# Altium footprint library PcbLib1.PcbLib: 42 footprints (part 1 of 3)
Each footprint in its own frame and in the unit in brackets; x right, y up, seen from the top. Pads: shape width x height; smd on the part's side, far side on the other; paste and mask are expansions set on the pad; w line width, h text height; cw(c..) or ccw(c..) is an arc to the next point about the centre after c.
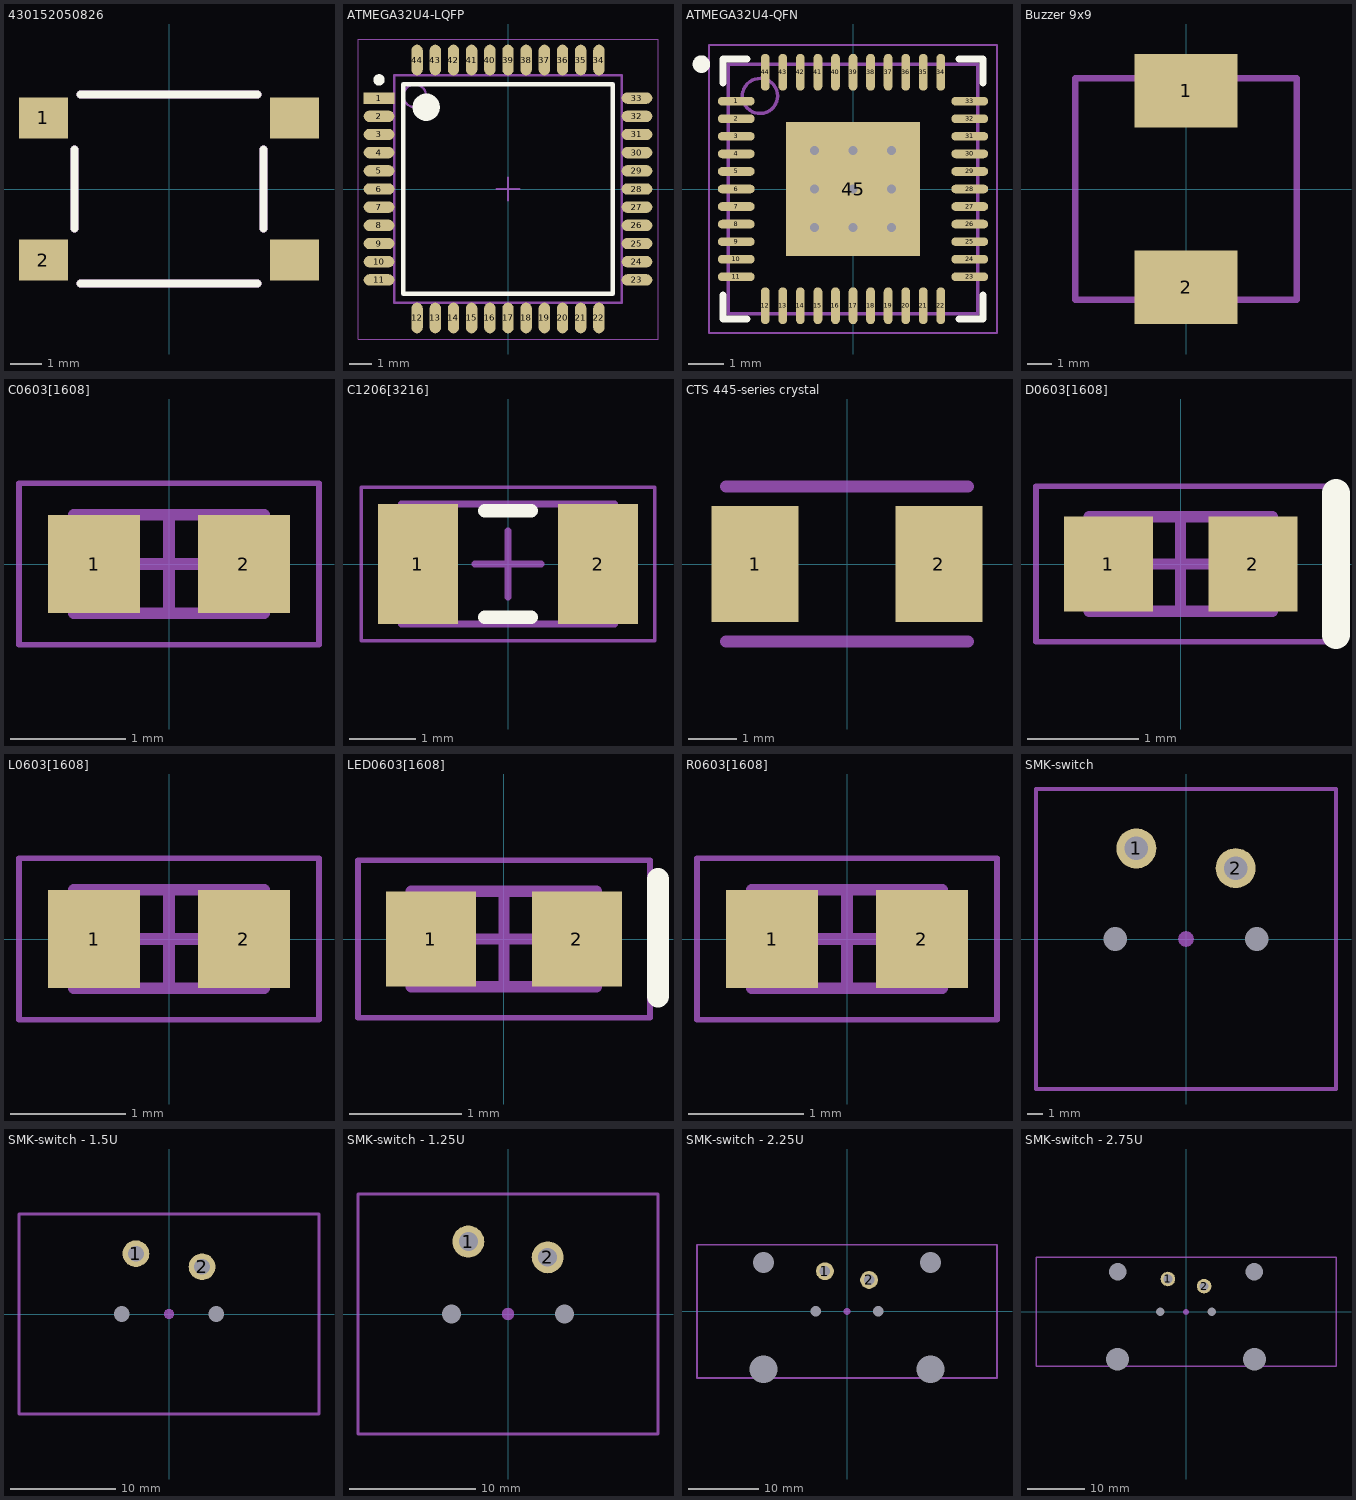
[diagram p0: the footprints below, top view; thin cyan lines are the x and y axes]

## 430152050826 [mm] "Wurth Electronics Inc."
pads (4):
  rect 1.55x1.3 smd: 1(-3.975,2.25) 2(-3.975,-2.25) ""(3.975,-2.25) ""(3.975,2.25)
Top Overlay:
  lines w0.254: -3,-1.25 -3,1.25 ; -2.8,-3 2.8,-3 ; -2.8,3 2.8,3 ; 3,-1.25 3,1.25
Mechanical 13:
  lines w0.254: -3,-1.25 -3,1.25 ; -2.8,-3 2.8,-3 ; -2.8,3 2.8,3 ; 3,-1.25 3,1.25
  text ".Designator" at -1.3,-0.125 h0.35
3D body "430152050826 (rev1).stp": height 5, standoff 0, extent -4.5,-3.1 4.5,3.1

## ATMEGA32U4-LQFP [mm] "QFP, 44-Leads, Body 9,95x9,95mm, Pitch 0,80mm, IPC Medium Density"
height 2.45
pads (44):
  rect 1.35x0.5 smd: 1(-5.675,4)
  oval 1.35x0.5 smd: 2(-5.675,3.2) 3(-5.675,2.4) 4(-5.675,1.6) 5(-5.675,0.8) 6(-5.675,0) 7(-5.675,-0.8) 8(-5.675,-1.6) 9(-5.675,-2.4) 10(-5.675,-3.2) 11(-5.675,-4) 23(5.675,-4) 24(5.675,-3.2) 25(5.675,-2.4) 26(5.675,-1.6) 27(5.675,-0.8) 28(5.675,0) 29(5.675,0.8) 30(5.675,1.6) 31(5.675,2.4) 32(5.675,3.2) 33(5.675,4)
  oval 0.5x1.35 smd: 12(-4,-5.675) 13(-3.2,-5.675) 14(-2.4,-5.675) 15(-1.6,-5.675) 16(-0.8,-5.675) 17(0,-5.675) 18(0.8,-5.675) 19(1.6,-5.675) 20(2.4,-5.675) 21(3.2,-5.675) 22(4,-5.675) 34(4,5.675) 35(3.2,5.675) 36(2.4,5.675) 37(1.6,5.675) 38(0.8,5.675) 39(0,5.675) 40(-0.8,5.675) 41(-1.6,5.675) 42(-2.4,5.675) 43(-3.2,5.675) 44(-4,5.675)
Top Overlay:
  circle w0.25: c-5.675,4.8 r0.125
  circle w0.6: c-3.6,3.6 r0.3
  lines w0.2: -4.6,-4.6 -4.6,4.6 4.6,4.6 4.6,-4.6 -4.6,-4.6
Mechanical 13:
  circle w0.1: c-4.1,4.1 r0.5
  lines w0.1: -5,-5 -5,5 5,5 5,-5 -5,-5
  text ".Designator" at -1.425,-0.15 h0.35
Mechanical 15:
  lines w0.05: -6.6,-6.6 -6.6,6.6 6.6,6.6 6.6,-6.6 -6.6,-6.6
  lines w0.1: -0.5,0 0.5,0 ; 0,-0.5 0,0.5
3D body "tqfp-44.STEP": height 1, standoff -0.11, extent -6,-6 6,6

## ATMEGA32U4-QFN [mm]
height 1
pads (45):
  oval 1.05x0.25 smd: 1(-3.325,2.5) 2(-3.325,2) 3(-3.325,1.5) 4(-3.325,1) 5(-3.325,0.5) 6(-3.325,0) 7(-3.325,-0.5) 8(-3.325,-1) 9(-3.325,-1.5) 10(-3.325,-2) 11(-3.325,-2.5) 23(3.325,-2.5) 24(3.325,-2) 25(3.325,-1.5) 26(3.325,-1) 27(3.325,-0.5) 28(3.325,0) 29(3.325,0.5) 30(3.325,1) 31(3.325,1.5) 32(3.325,2) 33(3.325,2.5)
  oval 0.25x1.05 smd: 12(-2.5,-3.325) 13(-2,-3.325) 14(-1.5,-3.325) 15(-1,-3.325) 16(-0.5,-3.325) 17(0,-3.325) 18(0.5,-3.325) 19(1,-3.325) 20(1.5,-3.325) 21(2,-3.325) 22(2.5,-3.325) 34(2.5,3.325) 35(2,3.325) 36(1.5,3.325) 37(1,3.325) 38(0.5,3.325) 39(0,3.325) 40(-0.5,3.325) 41(-1,3.325) 42(-1.5,3.325) 43(-2,3.325) 44(-2.5,3.325)
  rect 3.81x3.81 smd paste-1000: 45(0,0)
via -1.1,1.1 diameter 0.508 hole 0.254
via 0,1.1 diameter 0.508 hole 0.254
via 1.1,1.1 diameter 0.508 hole 0.254
via -1.1,0 diameter 0.508 hole 0.254
via 0,0 diameter 0.508 hole 0.254
via 1.1,0 diameter 0.508 hole 0.254
via -1.1,-1.1 diameter 0.508 hole 0.254
via 0,-1.1 diameter 0.508 hole 0.254
via 1.1,-1.1 diameter 0.508 hole 0.254
Top Overlay:
  circle w0.25: c-4.318,3.556 r0.125
  lines w0.2: -3.7,-3.025 -3.7,-3.7 -3.025,-3.7 ; -3.7,3.025 -3.7,3.7 -3.025,3.7 ; 3.025,-3.7 3.7,-3.7 3.7,-3.025 ; 3.025,3.7 3.7,3.7 3.7,3.025
Top Paste:
  region: -1.778,1.778 -1.778,0.254 -0.254,0.254 -0.254,1.778
  region: 1.778,1.778 0.254,1.778 0.254,0.254 1.778,0.254
  region: 1.778,-1.778 1.778,-0.254 0.254,-0.254 0.254,-1.778
  rectangle: -1.778,-1.778 -0.254,-0.254
Mechanical 13:
  circle w0.1: c-2.65,2.65 r0.5
  lines w0.1: -3.55,-3.55 -3.55,3.55 3.55,3.55 3.55,-3.55 -3.55,-3.55
  text ".Designator" at -2.345,-0.152 h0.5
Mechanical 15:
  lines w0.05: -4.1,-4.1 -4.1,4.1 4.1,4.1 4.1,-4.1 -4.1,-4.1
  lines w0.1: -0.5,0 0.5,0 ; 0,-0.5 0,0.5
3D body "ATMEGA32U4-combo.step": height 1, standoff 0, extent -3.6,-3.6 3.6,3.6

## Buzzer 9x9 [mm]
pads (2):
  rect 4.2x3 smd: 1(0,4) 2(0,-4)
Mechanical 13:
  lines w0.254: -4.5,-4.5 4.5,-4.5 4.5,4.5 -4.5,4.5 -4.5,-4.5
  text ".Designator" at -1.917,-0.015 h0.5
3D body "CUI_CPT-9019S-SMT.step": height 1.91, standoff 0, extent -4.551,-4.643 4.449,4.597

## C0603[1608] [mm] "Chip Resistor, 2-Leads, Body 1,57x0,80mm, IPC Medium Density"
height 0.5
pads (2):
  rect 0.8x0.85 smd: 1(-0.65,0) 2(0.65,0)
Mechanical 13:
  lines w0.1: -0.825,-0.425 0.825,-0.425 0.825,0.425 -0.825,0.425 -0.825,-0.425
  text ".Designator" at -1.05,-0.275 h0.35
Mechanical 15:
  lines w0.05: -1.3,-0.7 1.3,-0.7 1.3,0.7 -1.3,0.7 -1.3,-0.7
  lines w0.1: -0.425,0 0.425,0 ; 0,-0.425 0,0.425
3D body: height 0.5, standoff 0, extent -0.525,-0.425 0.525,0.425
3D body: height 0.5, standoff 0, extent 0.525,-0.425 0.825,0.425
3D body: height 0.5, standoff 0, extent -0.825,-0.425 -0.525,0.425

## C1206[3216] [mm]
height 1.2
pads (2):
  rect 1.2x1.8 smd: 1(-1.35,0) 2(1.35,0)
Top Overlay:
  lines w0.2: -0.35,-0.8 0.35,-0.8 ; -0.35,0.8 0.35,0.8
Mechanical 13:
  lines w0.1: -1.6,-0.9 1.6,-0.9 1.6,0.9 -1.6,0.9 -1.6,-0.9
  text ".Designator" at -1.245,-0.152 h0.5
Mechanical 15:
  lines w0.05: -2.2,-1.15 2.2,-1.15 2.2,1.15 -2.2,1.15 -2.2,-1.15
  lines w0.1: -0.5,0 0.5,0 ; 0,-0.5 0,0.5
3D body: height 1.2, standoff 0, extent 1.1,-0.9 1.6,0.9
3D body: height 1.2, standoff 0, extent -1.6,-0.9 -1.1,0.9
3D body: height 1.2, standoff 0, extent -1.1,-0.9 1.1,0.9

## CTS 445-series crystal [mm]
pads (2):
  rect 1.8x2.4 smd: 1(-1.9,0) 2(1.9,0)
Mechanical 13:
  lines w0.254: -2.5,-1.6 2.5,-1.6 ; -2.5,1.6 2.5,1.6
  text ".Designator" at -1.372,-0.152 h0.5
3D body "ABM3.STEP": height 1.3, standoff 0, extent -2.5,-1.6 2.5,1.6

## D0603[1608] [mm] "Chip Resistor, 2-Leads, Body 1,57x0,80mm, IPC Medium Density"
height 0.5
pads (2):
  rect 0.8x0.85 smd: 1(-0.65,0) 2(0.65,0)
Top Overlay:
  lines w0.254: 1.397,-0.635 1.397,0.635
Mechanical 13:
  lines w0.1: -0.825,-0.425 0.825,-0.425 0.825,0.425 -0.825,0.425 -0.825,-0.425
  text ".Designator" at -0.675,-0.175 h0.35
Mechanical 15:
  lines w0.05: -1.3,-0.7 1.3,-0.7 1.3,0.7 -1.3,0.7 -1.3,-0.7
  lines w0.1: -0.425,0 0.425,0 ; 0,-0.425 0,0.425
3D body "CD0603-B0xR.STP": height 0.59, standoff -0.01, extent -0.8,-0.45 0.805,0.45

## L0603[1608] [mm] "Chip Resistor, 2-Leads, Body 1,57x0,80mm, IPC Medium Density"
height 0.5
pads (2):
  rect 0.8x0.85 smd: 1(-0.65,0) 2(0.65,0)
Mechanical 13:
  lines w0.1: -0.825,-0.425 -0.825,0.425 0.825,0.425 0.825,-0.425 -0.825,-0.425
  text ".Designator" at -1.05,-0.275 h0.35
Mechanical 15:
  lines w0.05: -1.3,-0.7 -1.3,0.7 1.3,0.7 1.3,-0.7 -1.3,-0.7
  lines w0.1: -0.425,0 0.425,0 ; 0,-0.425 0,0.425
3D body: height 0.5, standoff 0, extent -0.825,-0.425 -0.525,0.425
3D body: height 0.5, standoff 0, extent 0.525,-0.425 0.825,0.425
3D body: height 0.5, standoff 0, extent -0.525,-0.425 0.525,0.425

## LED0603[1608] [mm] "Chip Resistor, 2-Leads, Body 1,57x0,80mm, IPC Medium Density"
height 0.5
pads (2):
  rect 0.8x0.85 smd: 1(-0.65,0) 2(0.65,0)
Top Overlay:
  lines w0.2: 1.372,-0.508 1.372,0.533
Mechanical 13:
  lines w0.1: -0.825,-0.425 0.825,-0.425 0.825,0.425 -0.825,0.425 -0.825,-0.425
  text ".Designator" at -1.05,-0.275 h0.35
Mechanical 15:
  lines w0.05: -1.3,-0.7 1.3,-0.7 1.3,0.7 -1.3,0.7 -1.3,-0.7
  lines w0.1: -0.425,0 0.425,0 ; 0,-0.425 0,0.425
3D body "0603 Chip SMD LED (1.6x0.8mm).STEP": height 0.8, standoff 0, extent -0.774,-0.4 0.826,0.4

## R0603[1608] [mm] "Chip Resistor, 2-Leads, Body 1,57x0,80mm, IPC Medium Density"
height 0.5
pads (2):
  rect 0.8x0.85 smd: 1(-0.65,0) 2(0.65,0)
Mechanical 13:
  lines w0.1: -0.825,-0.425 -0.825,0.425 0.825,0.425 0.825,-0.425 -0.825,-0.425
  text ".Designator" at -1.05,-0.275 h0.35
Mechanical 15:
  lines w0.05: -1.3,-0.7 -1.3,0.7 1.3,0.7 1.3,-0.7 -1.3,-0.7
  lines w0.1: -0.425,0 0.425,0 ; 0,-0.425 0,0.425
3D body: height 0.5, standoff 0, extent -0.825,-0.425 -0.525,0.425
3D body: height 0.5, standoff 0, extent 0.525,-0.425 0.825,0.425
3D body: height 0.5, standoff 0, extent -0.525,-0.425 0.525,0.425

## SMK-switch [mm]
pads (5):
  round 2.54 hole 1.499: 1(-3.15,5.75) 2(3.15,4.5)
  round 1 hole 1.5 unplated: ""(-4.5,0) ""(4.5,0)
  round 1 on Mech13: ""(0,0)
Mechanical 13:
  lines w0.254: -9.525,-9.525 -9.525,9.525 9.525,9.525 9.525,-9.525 -9.525,-9.525
  text ".Designator" at -3.575,-3.7 h0.7

## SMK-switch - 1.5U [mm]
pads (5):
  round 2.54 hole 1.499: 1(-3.15,5.75) 2(3.15,4.5)
  round 1 hole 1.5 unplated: ""(-4.5,0) ""(4.5,0)
  round 1 on Mech13: ""(0,0)
Mechanical 13:
  lines w0.254: -14.287,-9.525 14.287,-9.525 14.287,9.525 -14.287,9.525 -14.287,-9.525
  text ".Designator" at -3.825,-3.375 h0.7

## SMK-switch - 1.25U [mm]
pads (5):
  round 2.54 hole 1.499: 1(-3.15,5.75) 2(3.15,4.5)
  round 1 hole 1.5 unplated: ""(-4.5,0) ""(4.5,0)
  round 1 on Mech13: ""(0,0)
Mechanical 13:
  lines w0.254: -11.906,-9.525 11.906,-9.525 11.906,9.525 -11.906,9.525 -11.906,-9.525
  text ".Designator" at -3.425,-3.425 h0.7

## SMK-switch - 2.25U [mil]
pads (9):
  round 100 hole 59: 1(-124.02,226.38) 2(124.02,177.17)
  round 60 hole 157.01 unplated: ""(-470,-325) ""(470,-325)
  round 60 hole 120 unplated: ""(-470,275) ""(470,275)
  round 39.37 hole 59.06 unplated: ""(-177.17,0) ""(177.17,0)
  round 39.37 on Mech13: ""(0,0)
Mechanical 13:
  lines w10: -843.75,-375 -843.75,375 843.75,375 843.75,-375 -843.75,-375
  text ".Designator" at -150.59,-132.87 h27.56

## SMK-switch - 2.75U [mil]
pads (9):
  round 100 hole 59: 1(-124.02,226.38) 2(124.02,177.17)
  round 60 hole 157.01 unplated: ""(-470,-325) ""(470,-325)
  round 60 hole 120 unplated: ""(-470,275) ""(470,275)
  round 39.37 hole 59.06 unplated: ""(-177.17,0) ""(177.17,0)
  round 39.37 on Mech13: ""(0,0)
Mechanical 13:
  lines w10: -1031.25,-375 -1031.25,375 1031.25,375 1031.25,-375 -1031.25,-375
  text ".Designator" at -150.59,-132.87 h27.56